# Altium footprint library PcbLib2.PcbLib: 4 footprints
Each footprint in its own frame and in the unit in brackets; x right, y up, seen from the top. Pads: shape width x height; smd on the part's side, far side on the other; paste and mask are expansions set on the pad; w line width, h text height; cw(c..) or ccw(c..) is an arc to the next point about the centre after c.
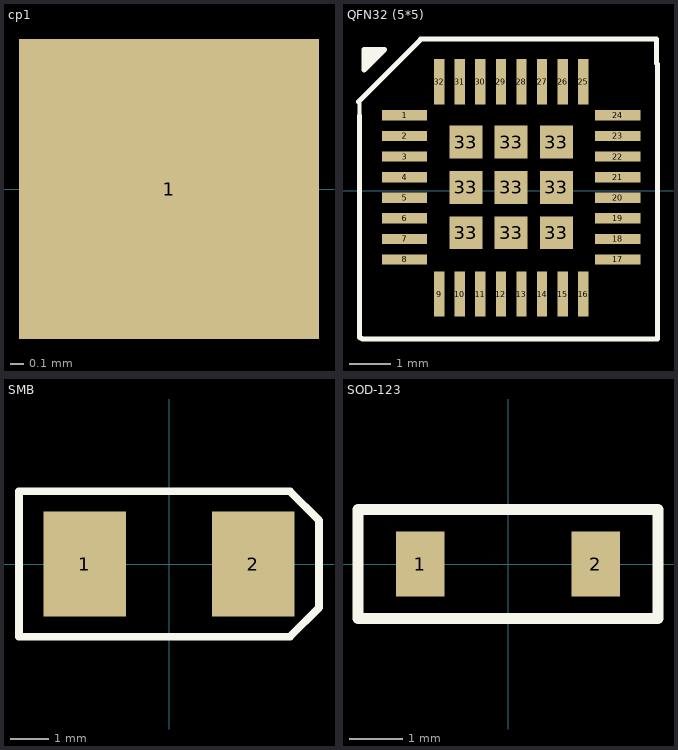
[diagram p0: the footprints below, top view; thin cyan lines are the x and y axes]

## cp1 [mm]
pads (1):
  rect 2.2x2.2 smd: 1(-6.3,0)

## QFN32 (5*5) [mm]
height 0.762
pads (41):
  rect 1.1x0.25 smd: 1(2.643,1.828) 2(2.643,1.328) 3(2.643,0.828) 4(2.643,0.328) 5(2.643,-0.172) 6(2.643,-0.672) 7(2.643,-1.172) 8(2.643,-1.672) 17(7.823,-1.672) 18(7.823,-1.172) 19(7.823,-0.672) 20(7.823,-0.172) 21(7.823,0.328) 22(7.823,0.828) 23(7.823,1.328) 24(7.823,1.828)
  rect 0.25x1.1 smd: 9(3.483,-2.512) 10(3.983,-2.512) 11(4.483,-2.512) 12(4.983,-2.512) 13(5.483,-2.512) 14(5.983,-2.512) 15(6.483,-2.512) 16(6.983,-2.512) 25(6.983,2.648) 26(6.483,2.648) 27(5.983,2.648) 28(5.483,2.648) 29(4.983,2.648) 30(4.483,2.648) 31(3.983,2.648) 32(3.483,2.648)
  rect 0.8x0.8 smd: 33(4.133,-1.022) 33(4.133,0.078) 33(4.133,1.178) 33(5.233,-1.022) 33(5.233,0.078) 33(5.233,1.178) 33(6.333,-1.022) 33(6.333,0.078) 33(6.333,1.178)
Top Overlay:
  rectangle: 1.666,3.088 1.866,3.238
  rectangle: 1.713,3.218 1.976,3.33
  rectangle: 1.71,3.269 2.014,3.39
  lines w0.1: 1.552,1.828 1.552,2.131
  lines w0.127: 1.524,2.159 3.048,3.683 3.163,3.683 ; 1.552,1.828 1.552,-3.569 1.626,-3.603 8.787,-3.603 8.787,3.078 ; 3.033,3.683 3.838,3.683 8.763,3.683 8.763,3.088 ; 1.659,2.929 2.159,3.429 1.659,3.429 1.659,2.929

## SMB [mm]
pads (2):
  rect 2.159x2.743 smd: 1(-2.21,0) 2(2.21,0)
Top Overlay:
  lines w0.2: -3.937,-1.905 3.175,-1.905 3.937,-1.143 3.937,1.143 3.175,1.905 -3.937,1.905 -3.937,-1.011 -3.937,-1.905

## SOD-123 [mm]
pads (2):
  rect 0.91x1.22 smd: 1(-1.635,0) 2(1.635,0)
Top Overlay:
  lines w0.2: -2.794,-1.016 -2.794,1.016 2.794,1.016 2.794,-1.016 -2.794,-1.016